# Altium integrated library Altium_WCAP-CSGP (rev19a).IntLib: 938 symbols (part 16 of 16)
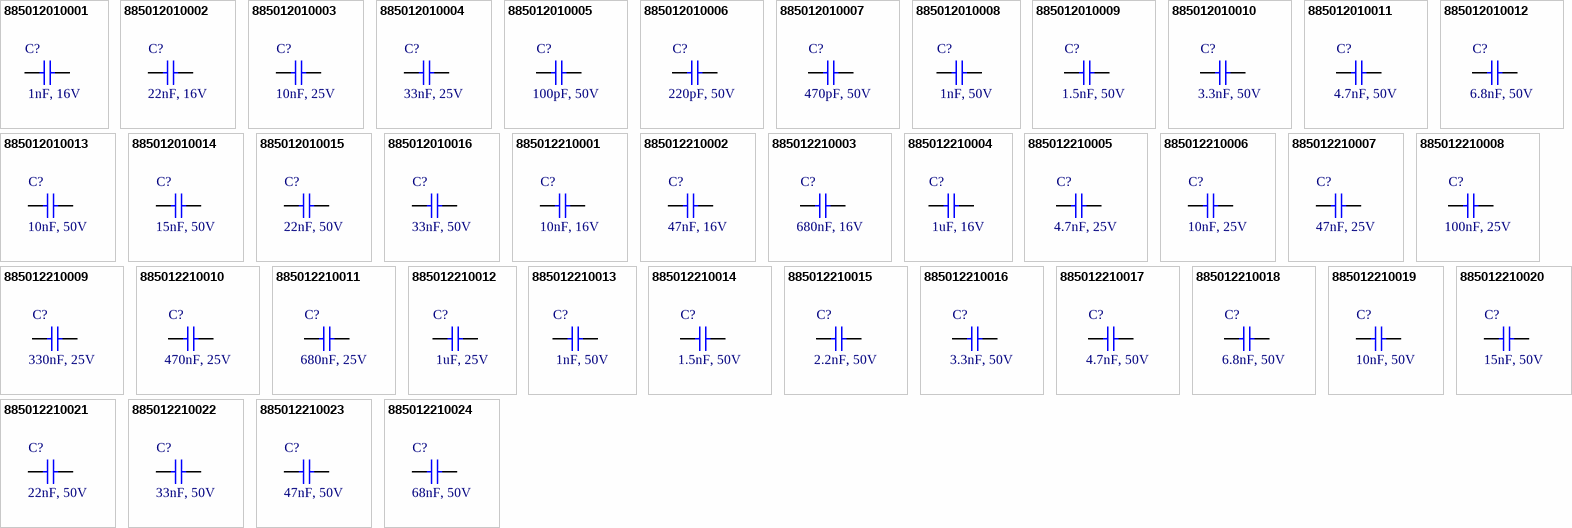
[diagram p42: symbols 885012010001 to 885012210024]

## 885012210021
designator C?, comment 22nF, 50V
WCAP-CSGP General Purpose Ceramic Capacitors, size 1812, 22nF, +/-10%, 50VDC; Part Number: 885012210021; Isolation Resistance: >=10GOhm; Ceramic Type: X7R; Technical Reference: X7R1812223K050DFCT10000; ComponentLink1Description: Manufacturer; ComponentLink1URL: http://www.we-online.de; ComponentLink2Description: Datasheet; ComponentLink2URL: https://katalog.we-online.com/pbs/datasheet/885012210021.pdf; Operating Temperature: -55 to +125degC; Packaging: Tape and Reel; Publisher: Wurth Elektronik; Rated Voltage: 50VDC; Published Date: August 2019; Capacitance Tolerance: +/-10%; Dissipation Factor: =<2.5%; Height: 1.25mm +/-0.10mm; Mounting Technology: SMD; Size: 1812; Capacitance: 22nF
footprint WCAP-CSGP_1812_H=1.25mm
pins: 1, 2

## 885012210022
designator C?, comment 33nF, 50V
WCAP-CSGP General Purpose Ceramic Capacitors, size 1812, 33nF, +/-10%, 50VDC; Part Number: 885012210022; Isolation Resistance: >=10GOhm; Ceramic Type: X7R; Technical Reference: X7R1812333K050DFCT10000; ComponentLink1Description: Manufacturer; ComponentLink1URL: http://www.we-online.de; ComponentLink2Description: Datasheet; ComponentLink2URL: https://katalog.we-online.com/pbs/datasheet/885012210022.pdf; Operating Temperature: -55 to +125degC; Packaging: Tape and Reel; Publisher: Wurth Elektronik; Rated Voltage: 50VDC; Published Date: August 2019; Capacitance Tolerance: +/-10%; Dissipation Factor: =<2.5%; Height: 1.25mm +/-0.10mm; Mounting Technology: SMD; Size: 1812; Capacitance: 33nF
footprint WCAP-CSGP_1812_H=1.25mm
pins: 1, 2

## 885012210023
designator C?, comment 47nF, 50V
WCAP-CSGP General Purpose Ceramic Capacitors, size 1812, 47nF, +/-10%, 50VDC; Part Number: 885012210023; Isolation Resistance: >=10GOhm; Ceramic Type: X7R; Technical Reference: X7R1812473K050DFCT10000; ComponentLink1Description: Manufacturer; ComponentLink1URL: http://www.we-online.de; ComponentLink2Description: Datasheet; ComponentLink2URL: https://katalog.we-online.com/pbs/datasheet/885012210023.pdf; Operating Temperature: -55 to +125degC; Packaging: Tape and Reel; Publisher: Wurth Elektronik; Rated Voltage: 50VDC; Published Date: August 2019; Capacitance Tolerance: +/-10%; Dissipation Factor: =<2.5%; Height: 1.25mm +/-0.10mm; Mounting Technology: SMD; Size: 1812; Capacitance: 47nF
footprint WCAP-CSGP_1812_H=1.25mm
pins: 1, 2

## 885012210024
designator C?, comment 68nF, 50V
WCAP-CSGP General Purpose Ceramic Capacitors, size 1812, 68nF, +/-10%, 50VDC; Part Number: 885012210024; Isolation Resistance: >=7.4GOhm; Ceramic Type: X7R; Technical Reference: X7R1812683K050DFCT10000; ComponentLink1Description: Manufacturer; ComponentLink1URL: http://www.we-online.de; ComponentLink2Description: Datasheet; ComponentLink2URL: https://katalog.we-online.com/pbs/datasheet/885012210024.pdf; Operating Temperature: -55 to +125degC; Packaging: Tape and Reel; Publisher: Wurth Elektronik; Rated Voltage: 50VDC; Published Date: August 2019; Capacitance Tolerance: +/-10%; Dissipation Factor: =<2.5%; Height: 1.25mm +/-0.10mm; Mounting Technology: SMD; Size: 1812; Capacitance: 68nF
footprint WCAP-CSGP_1812_H=1.25mm
pins: 1, 2

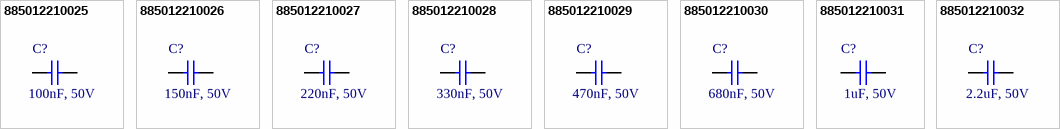
[diagram p27: symbols 885012210025 to 885012210032]

## 885012210025
designator C?, comment 100nF, 50V
WCAP-CSGP General Purpose Ceramic Capacitors, size 1812, 100nF, +/-10%, 50VDC; Part Number: 885012210025; Isolation Resistance: >=5GOhm; Ceramic Type: X7R; Technical Reference: X7R1812104K050DFCT10000; ComponentLink1Description: Manufacturer; ComponentLink1URL: http://www.we-online.de; ComponentLink2Description: Datasheet; ComponentLink2URL: https://katalog.we-online.com/pbs/datasheet/885012210025.pdf; Operating Temperature: -55 to +125degC; Packaging: Tape and Reel; Publisher: Wurth Elektronik; Rated Voltage: 50VDC; Published Date: August 2019; Capacitance Tolerance: +/-10%; Dissipation Factor: =<2.5%; Height: 1.25mm +/-0.10mm; Mounting Technology: SMD; Size: 1812; Capacitance: 100nF
footprint WCAP-CSGP_1812_H=1.25mm
pins: 1, 2

## 885012210026
designator C?, comment 150nF, 50V
WCAP-CSGP General Purpose Ceramic Capacitors, size 1812, 150nF, +/-10%, 50VDC; Part Number: 885012210026; Isolation Resistance: >=3.3GOhm; Ceramic Type: X7R; Technical Reference: X7R1812154K050DFCT10000; ComponentLink1Description: Manufacturer; ComponentLink1URL: http://www.we-online.de; ComponentLink2Description: Datasheet; ComponentLink2URL: https://katalog.we-online.com/pbs/datasheet/885012210026.pdf; Operating Temperature: -55 to +125degC; Packaging: Tape and Reel; Publisher: Wurth Elektronik; Rated Voltage: 50VDC; Published Date: August 2019; Capacitance Tolerance: +/-10%; Dissipation Factor: =<2.5%; Height: 1.25mm +/-0.10mm; Mounting Technology: SMD; Size: 1812; Capacitance: 150nF
footprint WCAP-CSGP_1812_H=1.25mm
pins: 1, 2

## 885012210027
designator C?, comment 220nF, 50V
WCAP-CSGP General Purpose Ceramic Capacitors, size 1812, 220nF, +/-10%, 50VDC; Part Number: 885012210027; Isolation Resistance: >=2.3GOhm; Ceramic Type: X7R; Technical Reference: X7R1812224K050DFCT10000; ComponentLink1Description: Manufacturer; ComponentLink1URL: http://www.we-online.de; ComponentLink2Description: Datasheet; ComponentLink2URL: https://katalog.we-online.com/pbs/datasheet/885012210027.pdf; Operating Temperature: -55 to +125degC; Packaging: Tape and Reel; Publisher: Wurth Elektronik; Rated Voltage: 50VDC; Published Date: August 2019; Capacitance Tolerance: +/-10%; Dissipation Factor: =<2.5%; Height: 1.25mm +/-0.10mm; Mounting Technology: SMD; Size: 1812; Capacitance: 220nF
footprint WCAP-CSGP_1812_H=1.25mm
pins: 1, 2

## 885012210028
designator C?, comment 330nF, 50V
WCAP-CSGP General Purpose Ceramic Capacitors, size 1812, 330nF, +/-10%, 50VDC; Part Number: 885012210028; Isolation Resistance: >=1.5GOhm; Ceramic Type: X7R; Technical Reference: X7R1812334K050DFCT10000; ComponentLink1Description: Manufacturer; ComponentLink1URL: http://www.we-online.de; ComponentLink2Description: Datasheet; ComponentLink2URL: https://katalog.we-online.com/pbs/datasheet/885012210028.pdf; Operating Temperature: -55 to +125degC; Packaging: Tape and Reel; Publisher: Wurth Elektronik; Rated Voltage: 50VDC; Published Date: August 2019; Capacitance Tolerance: +/-10%; Dissipation Factor: =<2.5%; Height: 1.25mm +/-0.10mm; Mounting Technology: SMD; Size: 1812; Capacitance: 330nF
footprint WCAP-CSGP_1812_H=1.25mm
pins: 1, 2

## 885012210029
designator C?, comment 470nF, 50V
WCAP-CSGP General Purpose Ceramic Capacitors, size 1812, 470nF, +/-10%, 50VDC; Part Number: 885012210029; Isolation Resistance: >=1.1GOhm; Ceramic Type: X7R; Technical Reference: X7R1812474K050DFCT10000; ComponentLink1Description: Manufacturer; ComponentLink1URL: http://www.we-online.de; ComponentLink2Description: Datasheet; ComponentLink2URL: https://katalog.we-online.com/pbs/datasheet/885012210029.pdf; Operating Temperature: -55 to +125degC; Packaging: Tape and Reel; Publisher: Wurth Elektronik; Rated Voltage: 50VDC; Published Date: August 2019; Capacitance Tolerance: +/-10%; Dissipation Factor: =<2.5%; Height: 1.25mm +/-0.10mm; Mounting Technology: SMD; Size: 1812; Capacitance: 470nF
footprint WCAP-CSGP_1812_H=1.25mm
pins: 1, 2

## 885012210030
designator C?, comment 680nF, 50V
WCAP-CSGP General Purpose Ceramic Capacitors, size 1812, 680nF, +/-10%, 50VDC; Part Number: 885012210030; Isolation Resistance: >=0.7GOhm; Ceramic Type: X7R; Technical Reference: X7R1812684K050DFCT10000; ComponentLink1Description: Manufacturer; ComponentLink1URL: http://www.we-online.de; ComponentLink2Description: Datasheet; ComponentLink2URL: https://katalog.we-online.com/pbs/datasheet/885012210030.pdf; Operating Temperature: -55 to +125degC; Packaging: Tape and Reel; Publisher: Wurth Elektronik; Rated Voltage: 50VDC; Published Date: August 2019; Capacitance Tolerance: +/-10%; Dissipation Factor: =<2.5%; Height: 2mm +/-0.20mm; Mounting Technology: SMD; Size: 1812; Capacitance: 680nF
footprint WCAP-CSGP_1812_H=2mm
pins: 1, 2

## 885012210031
designator C?, comment 1uF, 50V
WCAP-CSGP General Purpose Ceramic Capacitors, size 1812, 1uF, +/-10%, 50VDC; Part Number: 885012210031; Isolation Resistance: >=0.5GOhm; Ceramic Type: X7R; Technical Reference: X7R1812105K050DFCT10000; ComponentLink1Description: Manufacturer; ComponentLink1URL: http://www.we-online.de; ComponentLink2Description: Datasheet; ComponentLink2URL: https://katalog.we-online.com/pbs/datasheet/885012210031.pdf; Operating Temperature: -55 to +125degC; Packaging: Tape and Reel; Publisher: Wurth Elektronik; Rated Voltage: 50VDC; Published Date: August 2019; Capacitance Tolerance: +/-10%; Dissipation Factor: =<2.5%; Height: 2mm +/-0.20mm; Mounting Technology: SMD; Size: 1812; Capacitance: 1uF
footprint WCAP-CSGP_1812_H=2mm
pins: 1, 2

## 885012210032
designator C?, comment 2.2uF, 50V
WCAP-CSGP General Purpose Ceramic Capacitors, size 1812, 2.2uF, +/-10%, 50VDC; Part Number: 885012210032; Isolation Resistance: >=0.2GOhm; Ceramic Type: X7R; Technical Reference: X7R1812225K050DFCT10000; ComponentLink1Description: Manufacturer; ComponentLink1URL: http://www.we-online.de; ComponentLink2Description: Datasheet; ComponentLink2URL: https://katalog.we-online.com/pbs/datasheet/885012210032.pdf; Operating Temperature: -55 to +125degC; Packaging: Tape and Reel; Publisher: Wurth Elektronik; Rated Voltage: 50VDC; Published Date: August 2019; Capacitance Tolerance: +/-10%; Dissipation Factor: =<2.5%; Height: 2.5mm +/-0.30mm; Mounting Technology: SMD; Size: 1812; Capacitance: 2.2uF
footprint WCAP-CSGP_1812_H=2.5mm
pins: 1, 2